# Altium footprint library con-deutsch.PCBLIB: 1 footprints
Each footprint in its own frame and in the unit in brackets; x right, y up, seen from the top. Pads: shape width x height; smd on the part's side, far side on the other; paste and mask are expansions set on the pad; w line width, h text height; cw(c..) or ccw(c..) is an arc to the next point about the centre after c.
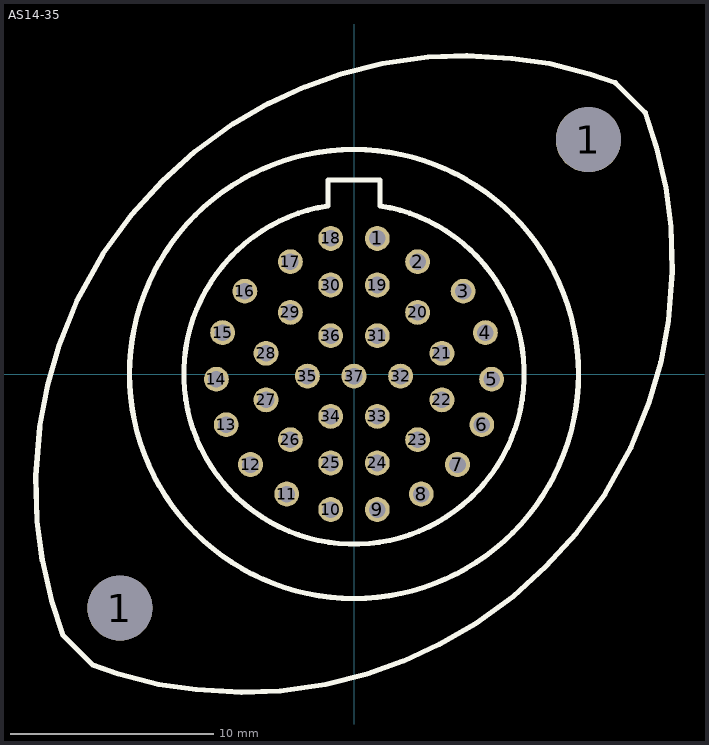
[diagram p0: the footprint, top view; thin cyan lines are the x and y axes]

## AS14-35 [mil]
pads (39):
  round 126 hole 126: 1(-452.5,-452.5) 1(453,453)
  round 48 hole 32: 1(45,262) 2(123,217) 3(211,160) 4(254,80) 5(266,-10) 6(247,-98) 7(200,-175) 8(130,-232) 9(45,-262) 10(-45,-262) 11(-130,-232) 12(-200,-175) 13(-247,-98) 14(-266,-10) 15(-254,80) 16(-211,160) 17(-123,217) 18(-45,262) 19(45,172) 20(123,119) 21(170,40) 22(170,-50) 23(123,-127) 24(45,-172) 25(-45,-172) 26(-123,-127) 27(-170,-50) 28(-170,40) 29(-123,119) 30(-45,172) 31(45,74) 32(90,-4) 33(45,-82) 34(-45,-82) 35(-90,-4) 36(-45,74) 37(0,-4)
Top Overlay:
  circle w10: c0,0 r434
  lines w10: -615,-197.5 -612.5,-285 -602.5,-360 -585,-437.5 -562.5,-505 -505,-562.5 -455,-580 -377.5,-600 -305,-610 -217.5,-615 -142.5,-612.5 -55,-600 25,-580 95,-555 165,-522.5 235,-482.5 308,-430 370,-372.5 430,-307.5 485,-232.5 535,-142.5 570,-55 593,23 608,103 615,198 613,285 603,360 585,438 563,505 505,563 455,580 378,600 305,610 218,615 143,613 55,600 -25,580 -95,555 -165,523 -235,483 -307.5,430 -370,373 -430,308 -485,233 -535,143 -570,55 -592.5,-22.5 -607.5,-102.5 -615,-197.5 ; -50,325 ccw(c0,0) 50,325 50,375 -50,375 -50,325